# Altium footprint library ABM9.PCBLIB: 1 footprints
Each footprint in its own frame and in the unit in brackets; x right, y up, seen from the top. Pads: shape width x height; smd on the part's side, far side on the other; paste and mask are expansions set on the pad; w line width, h text height; cw(c..) or ccw(c..) is an arc to the next point about the centre after c.
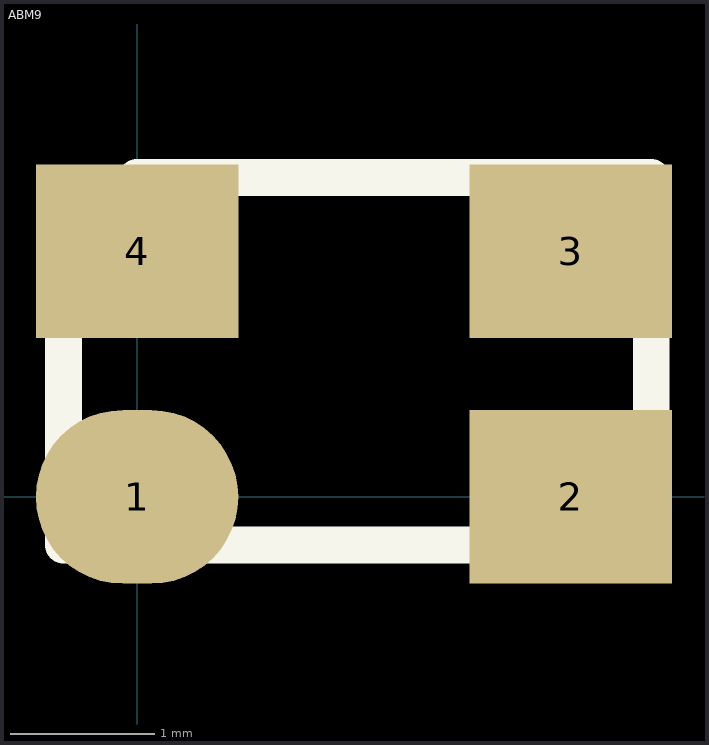
[diagram p0: the footprint, top view; thin cyan lines are the x and y axes]

## ABM9 [mm] "Footprint for ABM9 crystal (abracon)"
height 0.02
pads (4):
  oval 1.4x1.2 smd: 1(0,0)
  rect 1.4x1.2 smd: 2(3,0) 3(3,1.7) 4(0,1.7)
Top Overlay:
  lines w0.254: -0.508,-0.332 3.556,-0.332 3.556,2.208 0,2.208 -0.508,1.7 -0.508,-0.332